# Altium footprint library USB.PcbLib: 7 footprints
Each footprint in its own frame and in the unit in brackets; x right, y up, seen from the top. Pads: shape width x height; smd on the part's side, far side on the other; paste and mask are expansions set on the pad; w line width, h text height; cw(c..) or ccw(c..) is an arc to the next point about the centre after c.
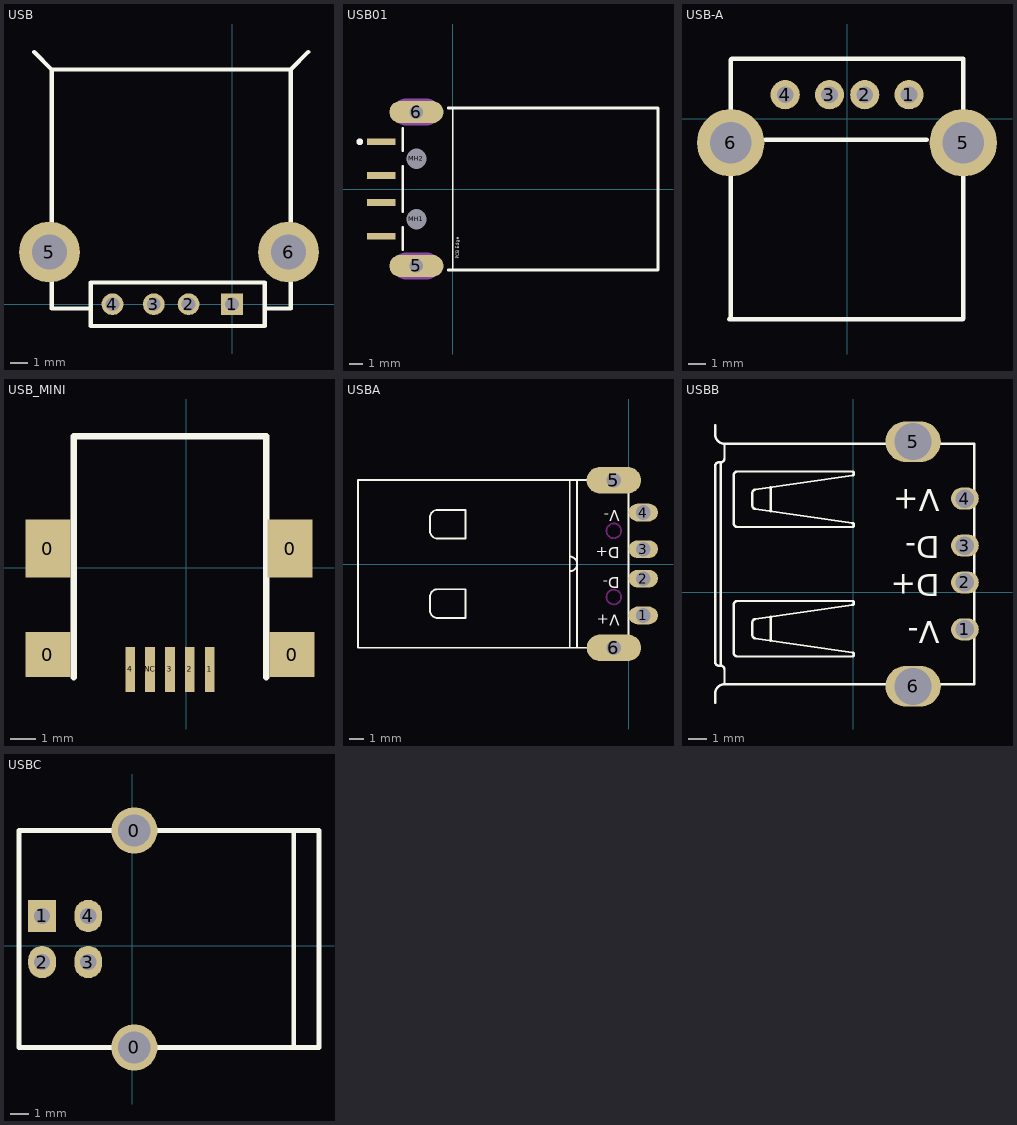
[diagram p0: the footprints below, top view; thin cyan lines are the x and y axes]

## USB [mil]
pads (6):
  rect 50x50 hole 32: 1(0,0)
  round 50 hole 32: 2(-100,0) 3(-180,0) 4(-275,0)
  round 140 hole 80: 5(-420,120) 6(130,120)
Top Overlay:
  lines w10: -455,580 -415,540 ; -325,-10 -415,-10 -415,540 ; 75,-10 135,-10 135,540 ; 175,580 135,540 ; -415,540 135,540 ; -325,-50 -325,50 75,50 75,-50 -325,-50

## USB01 [mm] "Connector; USB1.1, Type A, SM; 4 Position; Right Angle"
height 4.5
pads (8):
  rect 2.1x0.5 smd: 1(-5.3,3.5) 2(-5.3,1) 3(-5.3,-1) 4(-5.3,-3.5)
  oval 4x1.65 hole 1: 5(-2.7,-5.7) 6(-2.7,5.7)
  round 1.2 hole 1.5 unplated: MH1(-2.7,-2.25) MH2(-2.7,2.25)
Top Overlay:
  circle w0.25: c-6.9,3.5 r0.125
  lines w0.1: 0,-6 0,6
  lines w0.2: -3.7,-4.475 -3.7,-2.83 ; -3.7,-1.68 -3.7,1.68 ; -3.7,2.83 -3.7,4.475 ; -0.33,-6 15.2,-6 15.2,6 -0.33,6
  text "PCB Edge" at 0.473,-5.173 h0.25
Mechanical 1:
  lines w1: -3.45,-5.7 -1.95,-5.7 ; -3.45,5.7 -1.95,5.7
Mechanical 2:
  lines w2.016: -3.45,-5.7 -1.95,-5.7 ; -3.45,5.7 -1.95,5.7

## USB-A [mil]
pads (6):
  round 65 hole 37: 1(138,53.5) 2(39.5,53.5) 3(-39,53.5) 4(-137.6,53.5)
  round 150 hole 93: 5(259,-53.5) 6(-259,-53.5)
Top Overlay:
  lines w10: -182,-46.5 178,-46.5 ; -262,-446.5 258,-446.5 259,-445.5 259,-53.5 259,133.5 -257,133.5 -259,131.5 -259,-53.5 -259,-423.5 -259,-443.5 -262,-446.5

## USB_MINI [mil]
pads (9):
  rect 70x70 smd: 0(-215,-135) 0(165,-135)
  rect 70x90 smd: 0(-215,30) 0(162,30)
  rect 15x70 smd: 1(37,-158) 2(6,-158) 3(-25,-158) 4(-87,-158) NC(-56,-158)
Top Overlay:
  lines w10: -175,-170 -175,205 125,205 125,-170

## USBA [mm]
pads (6):
  oval 2x1.2 hole 1: 1(0.995,-3.5) 2(0.999,-0.997) 3(0.999,1.007) 4(1.002,3.5)
  oval 3.7x1.8 hole 1: 5(-1.002,5.698) 6(-0.999,-5.698)
Top Overlay:
  lines w0.127: -4.002,-5.695 -4.002,5.705 ; -4.002,-0.495 ccw(c-4.002,0.005) -4.002,0.505 ; -3.502,-5.695 -3.502,5.705 ; -2.402,-5.695 -18.402,-5.695 -18.402,5.705 -2.402,5.705 ; -0.002,-5.205 -0.002,5.215 ; -13.502,-3.17 ccw(c-13.002,-3.17) -13.002,-3.67 -11.102,-3.67 -11.102,-1.72 -13.002,-1.72 ccw(c-13.002,-2.22) -13.502,-2.22 -13.502,-3.17 ; -13.502,2.23 ccw(c-13.002,2.23) -13.002,1.73 -11.102,1.73 -11.102,3.68 -13.002,3.68 ccw(c-13.002,3.18) -13.502,3.18 -13.502,2.23
  text "D-" at -0.59,-0.625 h1.27
  text "V-" at -0.59,3.941 h1.27
  text "V+" at -0.59,-3.171 h1.27
  text "D+" at -0.59,1.401 h1.27
Keep-Out Layer:
  circle w0.127: c-1.002,2.255 r0.5
  circle w0.127: c-1.002,-2.245 r0.5
  lines w0.127: -1.902,-6.195 cw(c-1.902,-5.695) -1.902,-5.195 -0.102,-5.195 cw(c-0.102,-5.695) -0.102,-6.195 -1.902,-6.195 ; -1.902,5.205 cw(c-1.902,5.705) -1.902,6.205 -0.102,6.205 cw(c-0.102,5.705) -0.102,5.205 -1.902,5.205

## USBB [mm]
pads (6):
  oval 1.5x1.2 hole 1: 1(6.044,-2.018) 2(6.044,0.522) 3(6.044,2.522) 4(6.044,5.062)
  oval 3x2.2 hole 2: 5(3.244,8.132) 6(3.244,-5.088)
Top Overlay:
  lines w0.127: -7.456,-5.978 -7.456,-5.478 cw(c-6.956,-5.478) -6.956,-4.978 ; -7.456,9.022 -7.456,8.522 ccw(c-6.956,8.522) -6.956,8.022 ; -4.456,-2.629 -4.456,-1.328 ; -4.456,4.371 -4.456,5.672 ; 1.744,-4.978 -6.956,-4.978 ; 1.744,8.022 -6.956,8.022 ; 4.744,-4.978 6.544,-4.978 6.544,8.022 4.744,8.022 ; -7.156,-3.978 cw(c-7.156,-4.178) -6.956,-4.178 -6.956,-4.978 ; -7.156,-3.978 -7.156,7.022 ; -7.156,-3.978 -7.256,-3.978 cw(c-7.256,-3.778) -7.456,-3.778 -7.456,6.822 cw(c-7.256,6.822) -7.256,7.022 -7.156,7.022 ; -7.156,7.022 ccw(c-7.156,7.222) -6.956,7.222 -6.956,8.022 ; -6.456,-3.278 ccw(c-6.256,-3.278) -6.256,-3.478 -0.056,-3.478 ccw(c-0.056,-3.378) 0.044,-3.378 0.044,-3.365 ccw(c-0.056,-3.365) -0.042,-3.266 -5.292,-2.508 cw(c-5.256,-2.312) -5.456,-2.312 -5.456,-1.645 cw(c-5.256,-1.645) -5.292,-1.449 -0.042,-0.691 ccw(c-0.056,-0.592) 0.044,-0.592 0.044,-0.578 ccw(c-0.056,-0.578) -0.056,-0.478 -6.256,-0.478 ccw(c-6.256,-0.678) -6.456,-0.678 -6.456,-3.278 ; -6.456,3.722 ccw(c-6.256,3.722) -6.256,3.522 -0.056,3.522 ccw(c-0.056,3.622) 0.044,3.622 0.044,3.635 ccw(c-0.056,3.635) -0.042,3.734 -5.292,4.492 cw(c-5.256,4.688) -5.456,4.688 -5.456,5.355 cw(c-5.256,5.355) -5.292,5.551 -0.042,6.309 ccw(c-0.056,6.408) 0.044,6.408 0.044,6.422 ccw(c-0.056,6.422) -0.056,6.522 -6.256,6.522 ccw(c-6.256,6.322) -6.456,6.322 -6.456,3.722
  text "D-" at 4.679,3.011 h1.2
  text "D+" at 4.679,0.979 h1.2
  text "V-" at 4.679,-1.561 h1.2
  text "V+" at 4.679,5.551 h1.2

## USBC [mil]
pads (6):
  round 100 hole 70: 0(5,-220) 0(5,250)
  rect 60x70 hole 35: 1(-195,65)
  oval 60x70 hole 35: 2(-195,-35) 3(-95,-35) 4(-95,65)
Top Overlay:
  lines w10: -25,-220 -245,-220 -245,250 -25,250 ; 30,250 405,250 405,-220 35,-220 ; 350,-220 350,250